# Altium integrated library Power IC Library.IntLib: 1 symbol
Pins are listed as number, name and electrical type; pins without a type are passive.

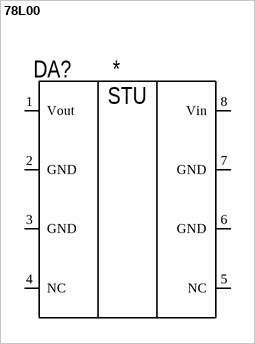
[diagram p0: symbol 78L00]

## 78L00
designator DA?
Model: *
footprint SO-8 Narrow
pins: 1 Vout, 2 GND, 3 GND, 4 NC, 5 NC, 6 GND, 7 GND, 8 Vin
text: STU